# Altium schematic symbol library MDD5N40RH.SchLib: 1 symbol
Pins are listed as number, name and electrical type; pins without a type are passive.

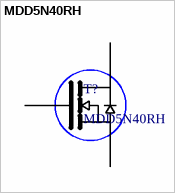
[diagram p0: symbol MDD5N40RH]

## MDD5N40RH
designator T?
footprint MDD5N40RH
pins: 1 72, 2 70, 3 71